# Altium schematic symbol library altera-cyclone-III.SCHLIB: 2 symbols
Pins are listed as number, name and electrical type; pins without a type are passive.

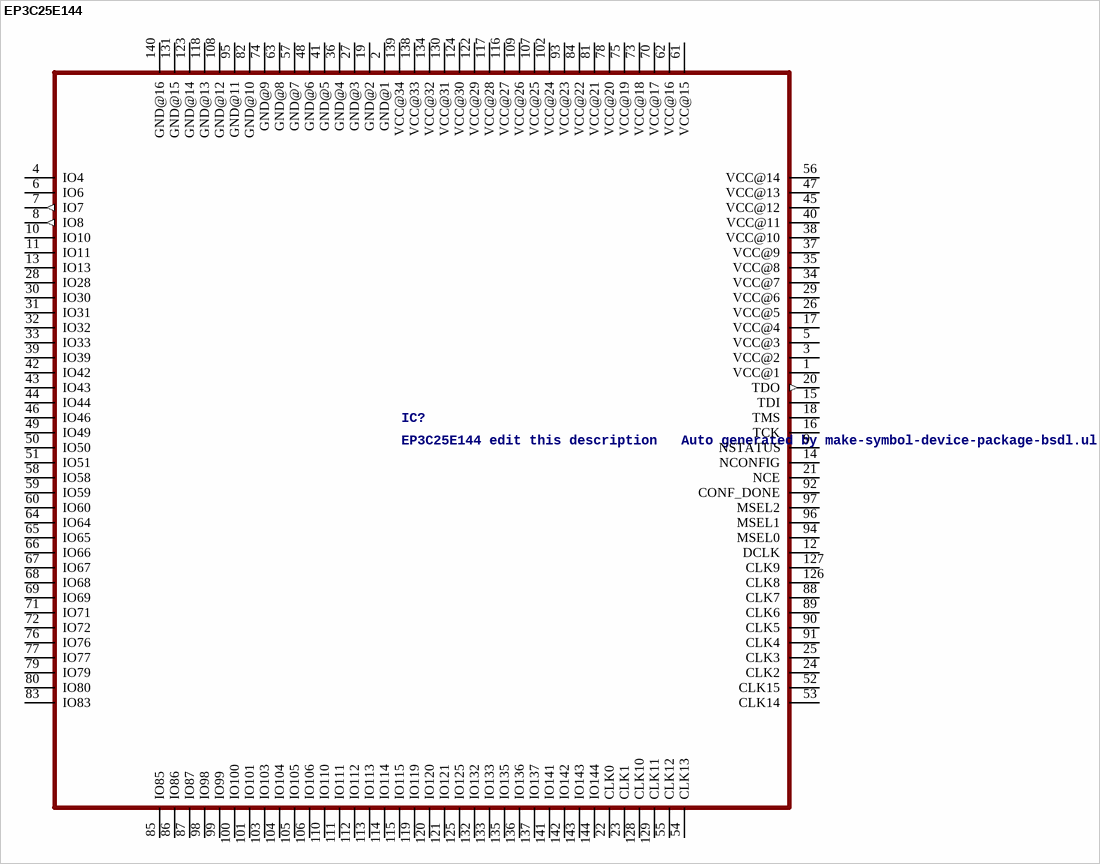
[diagram p0: symbol EP3C25E144]

## EP3C25E144
designator IC?, comment EP3C25E144 edit this description   Auto generated by make-symbol-device-package-bsdl.ulp Rev. 20 Source: EP3C25E144.bsd http://www.altera.com/support/devices/bsdl/cyclone3/cyc3-index.jsp
MPN: EP3C25E144C8N; OC_FARNELL: 1453474; OC_NEWARK: 51R0605
footprint EQFP144
pins: 1 VCC@1 (power), 2 GND@1 (power), 3 VCC@2 (power), 4 IO4, 5 VCC@3 (power), 6 IO6, 7 IO7 (out), 8 IO8 (out), 9 NSTATUS, 10 IO10, 11 IO11, 12 DCLK, 13 IO13, 14 NCONFIG, 15 TDI, 16 TCK, 17 VCC@4 (power), 18 TMS, 19 GND@2 (power), 20 TDO (out), 21 NCE, 22 CLK0, 23 CLK1, 24 CLK2, 25 CLK3, 26 VCC@5 (power), 27 GND@3 (power), 28 IO28, 29 VCC@6 (power), 30 IO30, 31 IO31, 32 IO32, 33 IO33, 34 VCC@7 (power), 35 VCC@8 (power), 36 GND@4 (power), 37 VCC@9 (power), 38 VCC@10 (power), 39 IO39, 40 VCC@11 (power), 41 GND@5 (power), 42 IO42, 43 IO43, 44 IO44, 45 VCC@12 (power), 46 IO46, 47 VCC@13 (power), 48 GND@6 (power), 49 IO49, 50 IO50, 51 IO51, 52 CLK15, 53 CLK14, 54 CLK13, 55 CLK12, 56 VCC@14 (power), 57 GND@7 (power), 58 IO58, 59 IO59, 60 IO60, 61 VCC@15 (power), 62 VCC@16 (power), 63 GND@8 (power), 64 IO64, 65 IO65, 66 IO66, 67 IO67, 68 IO68, 69 IO69, 70 VCC@17 (power), 71 IO71, 72 IO72, 73 VCC@18 (power), 74 GND@9 (power), 75 VCC@19 (power), 76 IO76, 77 IO77, 78 VCC@20 (power), 79 IO79, 80 IO80, 81 VCC@21 (power), 82 GND@10 (power), 83 IO83, 84 VCC@22 (power), 85 IO85, 86 IO86, 87 IO87, 88 CLK7, 89 CLK6, 90 CLK5, 91 CLK4, 92 CONF_DONE, 93 VCC@23 (power), 94 MSEL0, 95 GND@11 (power), 96 MSEL1, 97 MSEL2, 98 IO98, 99 IO99, 100 IO100, 101 IO101, 102 VCC@24 (power), 103 IO103, 104 IO104, 105 IO105, 106 IO106, 107 VCC@25 (power), 108 GND@12 (power), 109 VCC@26 (power), 110 IO110, 111 IO111, 112 IO112, 113 IO113, 114 IO114, 115 IO115, 116 VCC@27 (power), 117 VCC@28 (power), 118 GND@13 (power), 119 IO119, 120 IO120, 121 IO121, 122 VCC@29 (power), 123 GND@14 (power), 124 VCC@30 (power), 125 IO125, 126 CLK8, 127 CLK9, 128 CLK10, 129 CLK11, 130 VCC@31 (power), 131 GND@15 (power), 132 IO132, 133 IO133, 134 VCC@32 (power), 135 IO135, 136 IO136, 137 IO137, 138 VCC@33 (power), 139 VCC@34 (power), 140 GND@16 (power), 141 IO141, 142 IO142, 143 IO143, 144 IO144

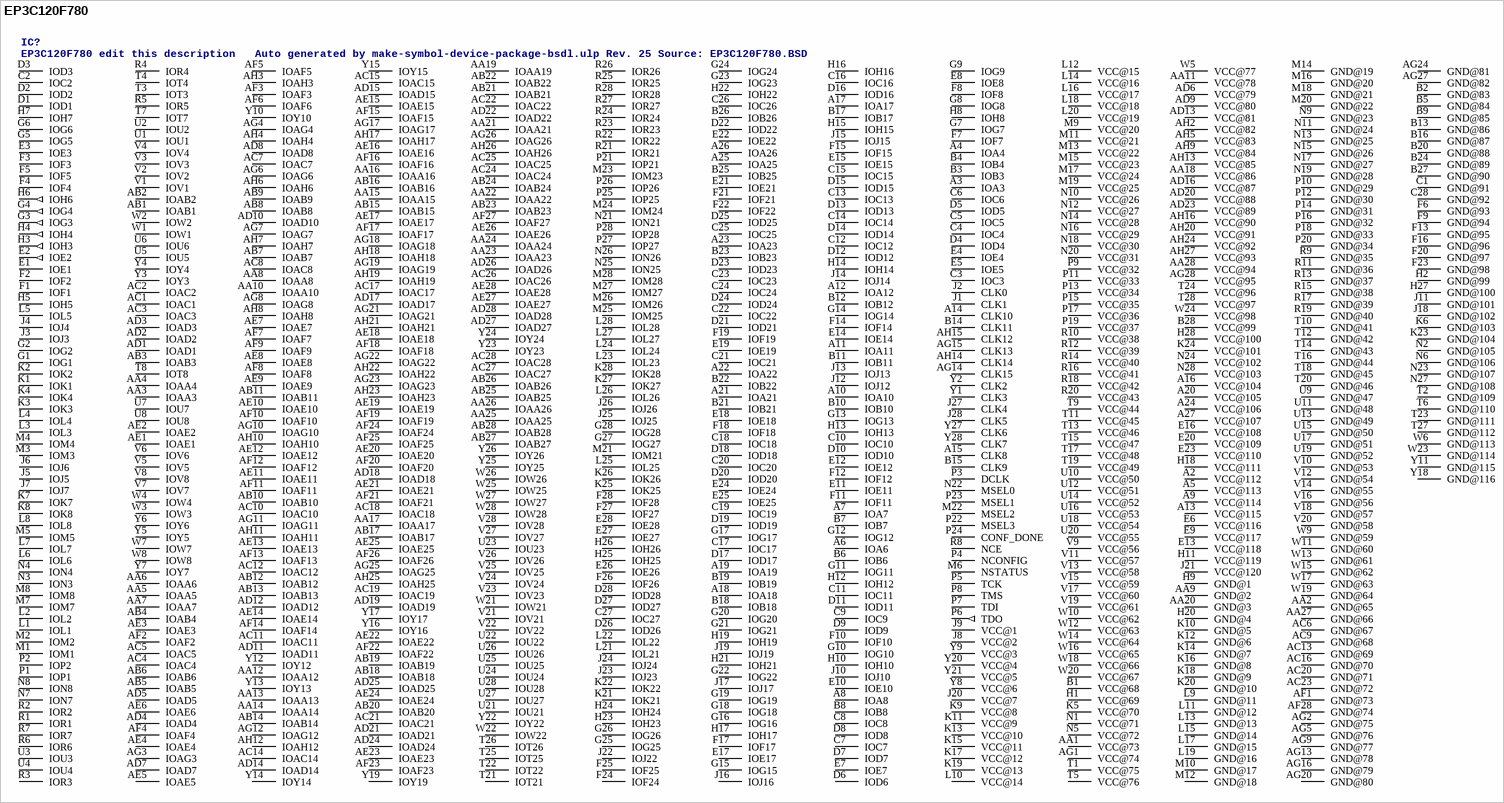
[diagram p1: symbol EP3C120F780]

## EP3C120F780
designator IC?, comment EP3C120F780 edit this description   Auto generated by make-symbol-device-package-bsdl.ulp Rev. 25 Source: EP3C120F780.BSD
MPN: EP3C120F780C8N; OC_FARNELL: 1635080; OC_NEWARK: 51R0597
footprint FBGA780
pins: A2 VCC@112 (power), A3 IOA3, A4 IOA4, A5 VCC@113 (power), A6 IOA6, A7 IOA7, A8 IOA8, A9 VCC@114 (power), A10 IOA10, A11 IOA11, A12 IOA12, A13 VCC@115 (power), A14 CLK10, A15 CLK8, A16 VCC@104 (power), A17 IOA17, A18 IOA18, A19 IOA19, A20 VCC@105 (power), A21 IOA21, A22 IOA22, A23 IOA23, A24 VCC@106 (power), A25 IOA25, A26 IOA26, A27 VCC@107 (power), AA1 VCC@73 (power), AA2 GND@65 (power), AA3 IOAA3, AA4 IOAA4, AA5 IOAA5, AA6 IOAA6, AA7 IOAA7, AA8 IOAA8, AA9 GND@2 (power), AA10 IOAA10, AA11 VCC@78 (power), AA12 IOAA12, AA13 IOAA13, AA14 IOAA14, AA15 IOAA15, AA16 IOAA16, AA17 IOAA17, AA18 VCC@86 (power), AA19 IOAA19, AA20 GND@3 (power), AA21 IOAA21, AA22 IOAA22, AA23 IOAA23, AA24 IOAA24, AA25 IOAA25, AA26 IOAA26, AA27 GND@66 (power), AA28 VCC@94 (power), AB1 IOAB1, AB2 IOAB2, AB3 IOAB3, AB4 IOAB4, AB5 IOAB5, AB6 IOAB6, AB7 IOAB7, AB8 IOAB8, AB9 IOAB9, AB10 IOAB10, AB11 IOAB11, AB12 IOAB12, AB13 IOAB13, AB14 IOAB14, AB15 IOAB15, AB16 IOAB16, AB17 IOAB17, AB18 IOAB18, AB19 IOAB19, AB20 IOAB20, AB21 IOAB21, AB22 IOAB22, AB23 IOAB23, AB24 IOAB24, AB25 IOAB25, AB26 IOAB26, AB27 IOAB27, AB28 IOAB28, AC1 IOAC1, AC2 IOAC2, AC3 IOAC3, AC4 IOAC4, AC5 IOAC5, AC6 GND@67 (power), AC7 IOAC7, AC8 IOAC8, AC9 GND@68 (power), AC10 IOAC10, AC11 IOAC11, AC12 IOAC12, AC13 GND@69 (power), AC14 IOAC14, AC15 IOAC15, AC16 GND@70 (power), AC17 IOAC17, AC18 IOAC18, AC19 IOAC19, AC20 GND@71 (power), AC21 IOAC21, AC22 IOAC22, AC23 GND@72 (power), AC24 IOAC24, AC25 IOAC25, AC26 IOAC26, AC27 IOAC27, AC28 IOAC28, AD1 IOAD1, AD2 IOAD2, AD3 IOAD3, AD4 IOAD4, AD5 IOAD5, AD6 VCC@79 (power), AD7 IOAD7, AD8 IOAD8, AD9 VCC@80 (power), AD10 IOAD10, AD11 IOAD11, AD12 IOAD12, AD13 VCC@81 (power), AD14 IOAD14, AD15 IOAD15, AD16 VCC@87 (power), AD17 IOAD17, AD18 IOAD18, AD19 IOAD19, AD20 VCC@88 (power), AD21 IOAD21, AD22 IOAD22, AD23 VCC@89 (power), AD24 IOAD24, AD25 IOAD25, AD26 IOAD26, AD27 IOAD27, AD28 IOAD28, AE1 IOAE1, AE2 IOAE2, AE3 IOAE3, AE4 IOAE4, AE5 IOAE5, AE6 IOAE6, AE7 IOAE7, AE8 IOAE8, AE9 IOAE9, AE10 IOAE10, AE11 IOAE11, AE12 IOAE12, AE13 IOAE13, AE14 IOAE14, AE15 IOAE15, AE16 IOAE16, AE17 IOAE17, AE18 IOAE18, AE19 IOAE19, AE20 IOAE20, AE21 IOAE21, AE22 IOAE22, AE23 IOAE23, AE24 IOAE24, AE25 IOAE25, AE26 IOAE26, AE27 IOAE27, AE28 IOAE28, AF1 GND@73 (power), AF2 IOAF2, AF3 IOAF3, AF4 IOAF4, AF5 IOAF5, AF6 IOAF6, AF7 IOAF7, AF8 IOAF8, AF9 IOAF9, AF10 IOAF10, AF11 IOAF11, AF12 IOAF12, AF13 IOAF13, AF14 IOAF14, AF15 IOAF15, AF16 IOAF16, AF17 IOAF17, AF18 IOAF18, AF19 IOAF19, AF20 IOAF20, AF21 IOAF21, AF22 IOAF22, AF23 IOAF23, AF24 IOAF24, AF25 IOAF25, AF26 IOAF26, AF27 IOAF27, AF28 GND@74 (power), AG1 VCC@74 (power), AG2 GND@75 (power), AG3 IOAG3, AG4 IOAG4, AG5 GND@76 (power), AG6 IOAG6, AG7 IOAG7, AG8 IOAG8, AG9 GND@77 (power), AG10 IOAG10, AG11 IOAG11, AG12 IOAG12, AG13 GND@78 (power), AG14 CLK15, AG15 CLK13, AG16 GND@79 (power), AG17 IOAG17, AG18 IOAG18, AG19 IOAG19, AG20 GND@80 (power), AG21 IOAG21, AG22 IOAG22, AG23 IOAG23, AG24 GND@81 (power), AG25 IOAG25, AG26 IOAG26, AG27 GND@82 (power), AG28 VCC@95 (power), AH2 VCC@82 (power), AH3 IOAH3, AH4 IOAH4, AH5 VCC@83 (power), AH6 IOAH6, AH7 IOAH7, AH8 IOAH8, AH9 VCC@84 (power), AH10 IOAH10, AH11 IOAH11, AH12 IOAH12, AH13 VCC@85 (power), AH14 CLK14, AH15 CLK12, AH16 VCC@90 (power), AH17 IOAH17, AH18 IOAH18, AH19 IOAH19, AH20 VCC@91 (power), AH21 IOAH21, AH22 IOAH22, AH23 IOAH23, AH24 VCC@92 (power), AH25 IOAH25, AH26 IOAH26, AH27 VCC@93 (power), B1 VCC@68 (power), B2 GND@83 (power), B3 IOB3, B4 IOB4, B5 GND@84 (power), B6 IOB6, B7 IOB7, B8 IOB8, B9 GND@85 (power), B10 IOB10, B11 IOB11, B12 IOB12, B13 GND@86 (power), B14 CLK11, B15 CLK9, B16 GND@87 (power), B17 IOB17, B18 IOB18, B19 IOB19, B20 GND@88 (power), B21 IOB21, B22 IOB22, B23 IOB23, B24 GND@89 (power), B25 IOB25, B26 IOB26, B27 GND@90 (power), B28 VCC@99 (power), C1 GND@91 (power), C2 IOC2, C3 IOC3, C4 IOC4, C5 IOC5, C6 IOC6, C7 IOC7, C8 IOC8, C9 IOC9, C10 IOC10, C11 IOC11, C12 IOC12, C13 IOC13, C14 IOC14, C15 IOC15, C16 IOC16, C17 IOC17, C18 IOC18, C19 IOC19, C20 IOC20, C21 IOC21, C22 IOC22, C23 IOC23, C24 IOC24, C25 IOC25, C26 IOC26, C27 IOC27, C28 GND@92 (power), D1 IOD1, D2 IOD2, D3 IOD3, D4 IOD4, D5 IOD5, D6 IOD6, D7 IOD7, D8 IOD8, D9 IOD9, D10 IOD10, D11 IOD11, D12 IOD12, D13 IOD13, D14 IOD14, D15 IOD15, D16 IOD16, D17 IOD17, D18 IOD18, D19 IOD19, D20 IOD20, D21 IOD21, D22 IOD22, D23 IOD23, D24 IOD24, D25 IOD25, D26 IOD26, D27 IOD27, D28 IOD28, E1 IOE1, E2 IOE2 (out), E3 IOE3, E4 IOE4, E5 IOE5, E6 VCC@116 (power), E7 IOE7, E8 IOE8, E9 VCC@117 (power), E10 IOE10, E11 IOE11, E12 IOE12, E13 VCC@118 (power), E14 IOE14, E15 IOE15, E16 VCC@108 (power), E17 IOE17, E18 IOE18, E19 IOE19, E20 VCC@109 (power), E21 IOE21, E22 IOE22, E23 VCC@110 (power), E24 IOE24, E25 IOE25, E26 IOE26, E27 IOE27, E28 IOE28, F1 IOF1, F2 IOF2, F3 IOF3, F4 IOF4, F5 IOF5, F6 GND@93 (power), F7 IOF7, F8 IOF8, F9 GND@94 (power), F10 IOF10, F11 IOF11, F12 IOF12, F13 GND@95 (power), F14 IOF14, F15 IOF15, F16 GND@96 (power), F17 IOF17, F18 IOF18, F19 IOF19, F20 GND@97 (power), F21 IOF21, F22 IOF22, F23 GND@98 (power), F24 IOF24, F25 IOF25, F26 IOF26, F27 IOF27, F28 IOF28, G1 IOG1, G2 IOG2, G3 IOG3 (out), G4 IOG4 (out), G5 IOG5, G6 IOG6, G7 IOG7, G8 IOG8, G9 IOG9, G10 IOG10, G11 IOG11, G12 IOG12, G13 IOG13, G14 IOG14, G15 IOG15, G16 IOG16, G17 IOG17, G18 IOG18, G19 IOG19, G20 IOG20, G21 IOG21, G22 IOG22, G23 IOG23, G24 IOG24, G25 IOG25, G26 IOG26, G27 IOG27, G28 IOG28, H1 VCC@69 (power), H2 GND@99 (power), H3 IOH3 (out), H4 IOH4 (out), H5 IOH5, H6 IOH6 (out), H7 IOH7, H8 IOH8, H9 GND@1 (power), H10 IOH10, H11 VCC@119 (power), H12 IOH12, H13 IOH13, H14 IOH14, H15 IOH15, H16 IOH16, H17 IOH17, H18 VCC@111 (power), H19 IOH19, H20 GND@4 (power), H21 IOH21, H22 IOH22, H23 IOH23, H24 IOH24, H25 IOH25, H26 IOH26, H27 GND@100 (power), H28 VCC@100 (power), J1 CLK1, J2 CLK0, J3 IOJ3, J4 IOJ4, J5 IOJ5, J6 IOJ6, J7 IOJ7, J8 VCC@2 (power), J9 VCC@1 (power), J10 IOJ10, J11 GND@101 (power), J12 IOJ12, J13 IOJ13, J14 IOJ14, J15 IOJ15, J16 IOJ16, J17 IOJ17, J18 GND@102 (power), J19 IOJ19, J20 VCC@7 (power), J21 VCC@120 (power), J22 IOJ22, J23 IOJ23, J24 IOJ24, J25 IOJ25, J26 IOJ26, J27 CLK4, J28 CLK5, K1 IOK1, K2 IOK2, K3 IOK3, K4 IOK4, K5 VCC@70 (power), K6 GND@103 (power), K7 IOK7, K8 IOK8, K9 VCC@8 (power), K10 GND@5 (power), K11 VCC@9 (power), K12 GND@6 (power), K13 VCC@10 (power), K14 GND@7 (power), K15 VCC@11 (power), K16 GND@8 (power), K17 VCC@12 (power), K18 GND@9 (power), K19 VCC@13 (power), K20 GND@10 (power), K21 IOK21, K22 IOK22, K23 GND@104 (power), K24 VCC@101 (power), K25 IOK25, K26 IOK26, K27 IOK27, K28 IOK28, L1 IOL1, L2 IOL2, L3 IOL3, L4 IOL4, L5 IOL5, L6 IOL6, L7 IOL7, L8 IOL8, L9 GND@11 (power), L10 VCC@14 (power), L11 GND@12 (power), L12 VCC@15 (power), L13 GND@13 (power), L14 VCC@16 (power), L15 GND@14 (power), L16 VCC@17 (power), L17 GND@15 (power), L18 VCC@18 (power), L19 GND@16 (power), L20 VCC@19 (power), L21 IOL21, L22 IOL22, L23 IOL23, L24 IOL24, L25 IOL25, L26 IOL26, L27 IOL27, L28 IOL28, M1 IOM1, M2 IOM2, M3 IOM3, M4 IOM4, M5 IOM5, M6 NSTATUS, M7 IOM7, M8 IOM8, M9 VCC@20 (power), M10 GND@17 (power), M11 VCC@21 (power), M12 GND@18 (power), M13 VCC@22 (power), M14 GND@19 (power), M15 VCC@23 (power), M16 GND@20 (power), M17 VCC@24 (power), M18 GND@21 (power), M19 VCC@25 (power), M20 GND@22 (power), M21 IOM21, M22 MSEL2, M23 IOM23, M24 IOM24, M25 IOM25, M26 IOM26, M27 IOM27, M28 IOM28, N1 VCC@71 (power), N2 GND@105 (power), N3 ION3, N4 ION4, N5 VCC@72 (power), N6 GND@106 (power), N7 ION7, N8 ION8, N9 GND@23 (power), N10 VCC@26 (power), N11 GND@24 (power), N12 VCC@27 (power), N13 GND@25 (power), N14 VCC@28 (power), N15 GND@26 (power), N16 VCC@29 (power), N17 GND@27 (power), N18 VCC@30 (power), N19 GND@28 (power), N20 VCC@31 (power), N21 ION21, N22 MSEL0, N23 GND@107 (power), N24 VCC@102 (power), N25 ION25, N26 ION26, N27 GND@108 (power), N28 VCC@103 (power), P1 IOP1, P2 IOP2, P3 DCLK, P4 NCONFIG, P5 TCK, P6 TDO (out), P7 TDI, P8 TMS, P9 VCC@32 (power), P10 GND@29 (power), P11 VCC@33 (power), P12 GND@30 (power), P13 VCC@34 (power), P14 GND@31 (power), P15 VCC@35 (power), P16 GND@32 (power), P17 VCC@36 (power), P18 GND@33 (power), P19 VCC@37 (power), P20 GND@34 (power), P21 IOP21, P22 MSEL3, P23 MSEL1, P24 CONF_DONE, P25 IOP25, P26 IOP26, P27 IOP27, P28 IOP28, R1 IOR1, R2 IOR2, R3 IOR3, R4 IOR4, R5 IOR5, R6 IOR6, R7 IOR7, R8 NCE, R9 GND@35 (power), R10 VCC@38 (power), R11 GND@36 (power), R12 VCC@39 (power), R13 GND@37 (power), R14 VCC@40 (power), R15 GND@38 (power), R16 VCC@41 (power), R17 GND@39 (power), R18 VCC@42 (power), R19 GND@40 (power), R20 VCC@43 (power), R21 IOR21, R22 IOR22, R23 IOR23, R24 IOR24, R25 IOR25, R26 IOR26, R27 IOR27, R28 IOR28, T1 VCC@75 (power), T2 GND@109 (power), T3 IOT3, T4 IOT4, T5 VCC@76 (power), T6 GND@110 (power), T7 IOT7, T8 IOT8, T9 VCC@44 (power), T10 GND@41 (power), T11 VCC@45 (power), T12 GND@42 (power), T13 VCC@46 (power), T14 GND@43 (power), T15 VCC@47 (power), T16 GND@44 (power), T17 VCC@48 (power), T18 GND@45 (power), T19 VCC@49 (power), T20 GND@46 (power), T21 IOT21, T22 IOT22, T23 GND@111 (power), T24 VCC@96 (power), T25 IOT25, T26 IOT26, T27 GND@112 (power), T28 VCC@97 (power), U1 IOU1, U2 IOU2, U3 IOU3, U4 IOU4, U5 IOU5, U6 IOU6, U7 IOU7, U8 IOU8, U9 GND@47 (power), U10 VCC@50 (power), U11 GND@48 (power), U12 VCC@51 (power), U13 GND@49 (power), U14 VCC@52 (power), U15 GND@50 (power), U16 VCC@53 (power), U17 GND@51 (power), U18 VCC@54 (power), U19 GND@52 (power), U20 VCC@55 (power), U21 IOU21, U22 IOU22, U23 IOU23, U24 IOU24, U25 IOU25, U26 IOU26, U27 IOU27, U28 IOU28, V1 IOV1, V2 IOV2, V3 IOV3, V4 IOV4, V5 IOV5, V6 IOV6, V7 IOV7, V8 IOV8, V9 VCC@56 (power), V10 GND@53 (power), V11 VCC@57 (power), V12 GND@54 (power), V13 VCC@58 (power), V14 GND@55 (power), V15 VCC@59 (power), V16 GND@56 (power), V17 VCC@60 (power), V18 GND@57 (power), V19 VCC@61 (power), V20 GND@58 (power), V21 IOV21, V22 IOV22, V23 IOV23, V24 IOV24, V25 IOV25, V26 IOV26, V27 IOV27, V28 IOV28, W1 IOW1, W2 IOW2, W3 IOW3, W4 IOW4, W5 VCC@77 (power), W6 GND@113 (power), W7 IOW7, W8 IOW8, W9 GND@59 (power), W10 VCC@62 (power), W11 GND@60 (power), W12 VCC@63 (power), W13 GND@61 (power), W14 VCC@64 (power), W15 GND@62 (power), W16 VCC@65 (power), W17 GND@63 (power), W18 VCC@66 (power), W19 GND@64 (power), W20 VCC@67 (power), W21 IOW21, W22 IOW22, W23 GND@114 (power), W24 VCC@98 (power), W25 IOW25, W26 IOW26, W27 IOW27, W28 IOW28, Y1 CLK3, Y2 CLK2, Y3 IOY3, Y4 IOY4, Y5 IOY5, Y6 IOY6, Y7 IOY7, Y8 VCC@6 (power), Y9 VCC@3 (power), Y10 IOY10, Y11 GND@115 (power), Y12 IOY12, Y13 IOY13, Y14 IOY14, Y15 IOY15, Y16 IOY16, Y17 IOY17, Y18 GND@116 (power), Y19 IOY19, Y20 VCC@4 (power), Y21 VCC@5 (power), Y22 IOY22, Y23 IOY23, Y24 IOY24, Y25 IOY25, Y26 IOY26, Y27 CLK6, Y28 CLK7